# Altium footprint library ST-025.PcbLib: 1 footprints
Each footprint in its own frame and in the unit in brackets; x right, y up, seen from the top. Pads: shape width x height; smd on the part's side, far side on the other; paste and mask are expansions set on the pad; w line width, h text height; cw(c..) or ccw(c..) is an arc to the next point about the centre after c.
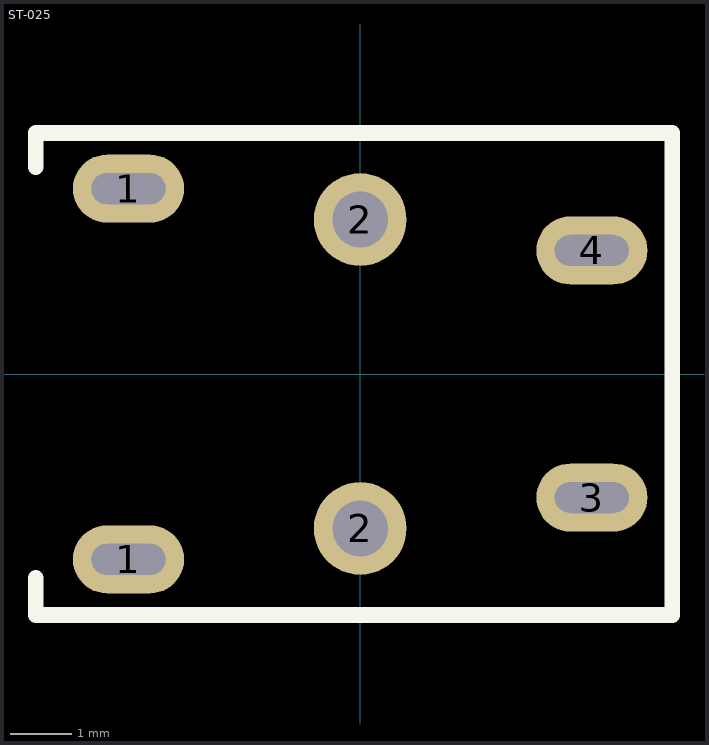
[diagram p0: the footprint, top view; thin cyan lines are the x and y axes]

## ST-025 [mm]
pads (6):
  oval 1.8x1.1 hole 0.5 slot 1.2 at 0 deg: 1(-3.75,-3) 1(-3.75,3) 3(3.75,-2) 4(3.75,2)
  round 1.5 hole 0.9: 2(0,-2.5) 2(0,2.5)
Top Overlay:
  lines w0.254: -5.25,-3.3 -5.25,-3.9 5.05,-3.9 5.05,3.9 -5.25,3.9 -5.25,3.35
3D body "Audio Jack 3.5 mm.STEP": height 6, standoff -2.81, extent -9.75,-3.75 5.15,3.722